# Altium footprint library Buzzer.PcbLib: 1 footprints
Each footprint in its own frame and in the unit in brackets; x right, y up, seen from the top. Pads: shape width x height; smd on the part's side, far side on the other; paste and mask are expansions set on the pad; w line width, h text height; cw(c..) or ccw(c..) is an arc to the next point about the centre after c.
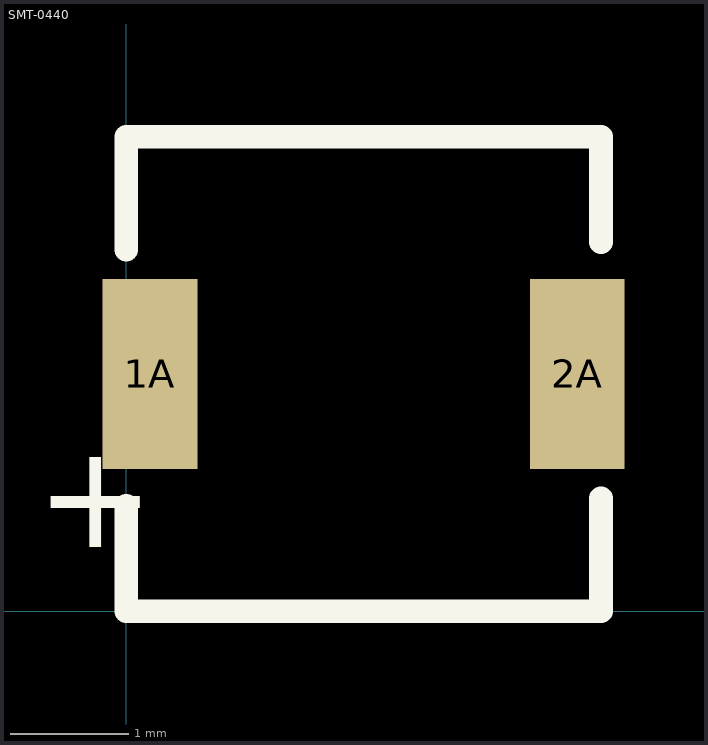
[diagram p0: the footprint, top view; thin cyan lines are the x and y axes]

## SMT-0440 [mm] "Magnetic BUZZER"
pads (2):
  rect 0.8x1.6 smd: 1A(0.2,2) 2A(3.8,2)
Top Overlay:
  lines w0.2: 0,0.889 0,0 4,0 4,0.953 ; 0,3.048 0,4 4,4 4,3.112
  text "+" at -0.762,0.254 h1.5